# Altium schematic symbol library LumexG.SchLib: 3 symbols
Pins are listed as number, name and electrical type; pins without a type are passive.

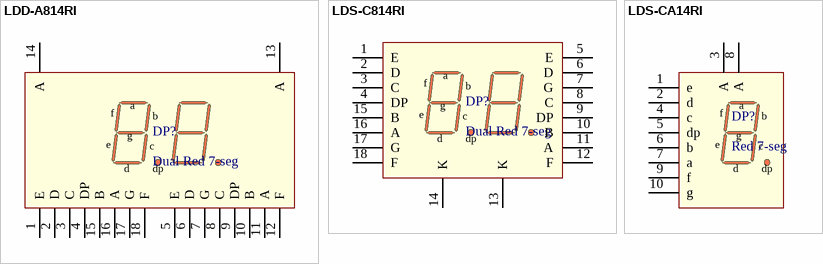
[diagram p0: symbols LDD-A814RI to LDS-CA14RI]

## LDD-A814RI
designator DP?, comment Dual Red 7-seg
footprint LDD-A814RI (0.80" Seven segment, dual digit display)
pins: 1 E, 2 D, 3 C, 4 DP, 5 E, 6 D, 7 G, 8 C, 9 DP, 10 B, 11 A, 12 F, 13 A, 14 A, 15 B, 16 A, 17 G, 18 F
text: a; f; b; g; e; c; d; dp

## LDS-C814RI
designator DP?, comment Dual Red 7-seg
footprint LDS-C814RI (Footprint not found)
pins: 1 E, 2 D, 3 C, 4 DP, 5 E, 6 D, 7 G, 8 C, 9 DP, 10 B, 11 A, 12 F, 13 K, 14 K, 15 B, 16 A, 17 G, 18 F
text: a; f; b; g; e; c; d; dp

## LDS-CA14RI
designator DP?, comment Red 7-seg
Red, 7-segment display with common anode
footprint LDS-CA14RI (Footprint not found)
pins: 1 e, 2 d, 3 A, 4 c, 5 dp, 6 b, 7 a, 8 A, 9 f, 10 g